# EAGLE library part USB (library CougsInSpace)
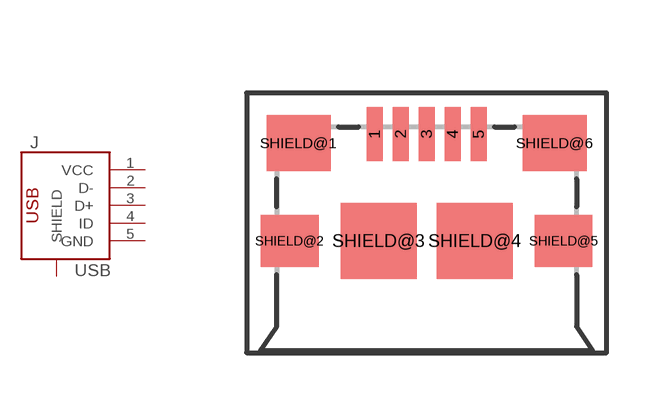
[diagram p14: symbol with the pads of USBMICROB; footprint USBMICROB]

Designator prefix J

## USBMICROB  [USBMICROB]
1  VCC  pwr
2  D-
3  D+
4  ID
5  GND  pwr
SHIELD@1  SHIELD  pas
SHIELD@2  SHIELD  pas
SHIELD@3  SHIELD  pas
SHIELD@4  SHIELD  pas
SHIELD@5  SHIELD  pas
SHIELD@6  SHIELD  pas

## Footprint USBMICROB (pad centres in mm)
smd 0.4 x 1.35: 1 -1.3,2.675; 2 -0.65,2.675; 3 0,2.675; 4 0.65,2.675; 5 1.3,2.675
smd 1.6 x 1.4: SHIELD@1 -3.2,2.45; SHIELD@6 3.2,2.45
smd 1.45 x 1.3: SHIELD@2 -3.425,0; SHIELD@5 3.425,0
smd 1.9 x 1.9: SHIELD@3 -1.2,0; SHIELD@4 1.2,0